# Altium footprint library Comp_Stellaris.PcbLib: 20 footprints (part 1 of 2)
Each footprint in its own frame and in the unit in brackets; x right, y up, seen from the top. Pads: shape width x height; smd on the part's side, far side on the other; paste and mask are expansions set on the pad; w line width, h text height; cw(c..) or ccw(c..) is an arc to the next point about the centre after c.
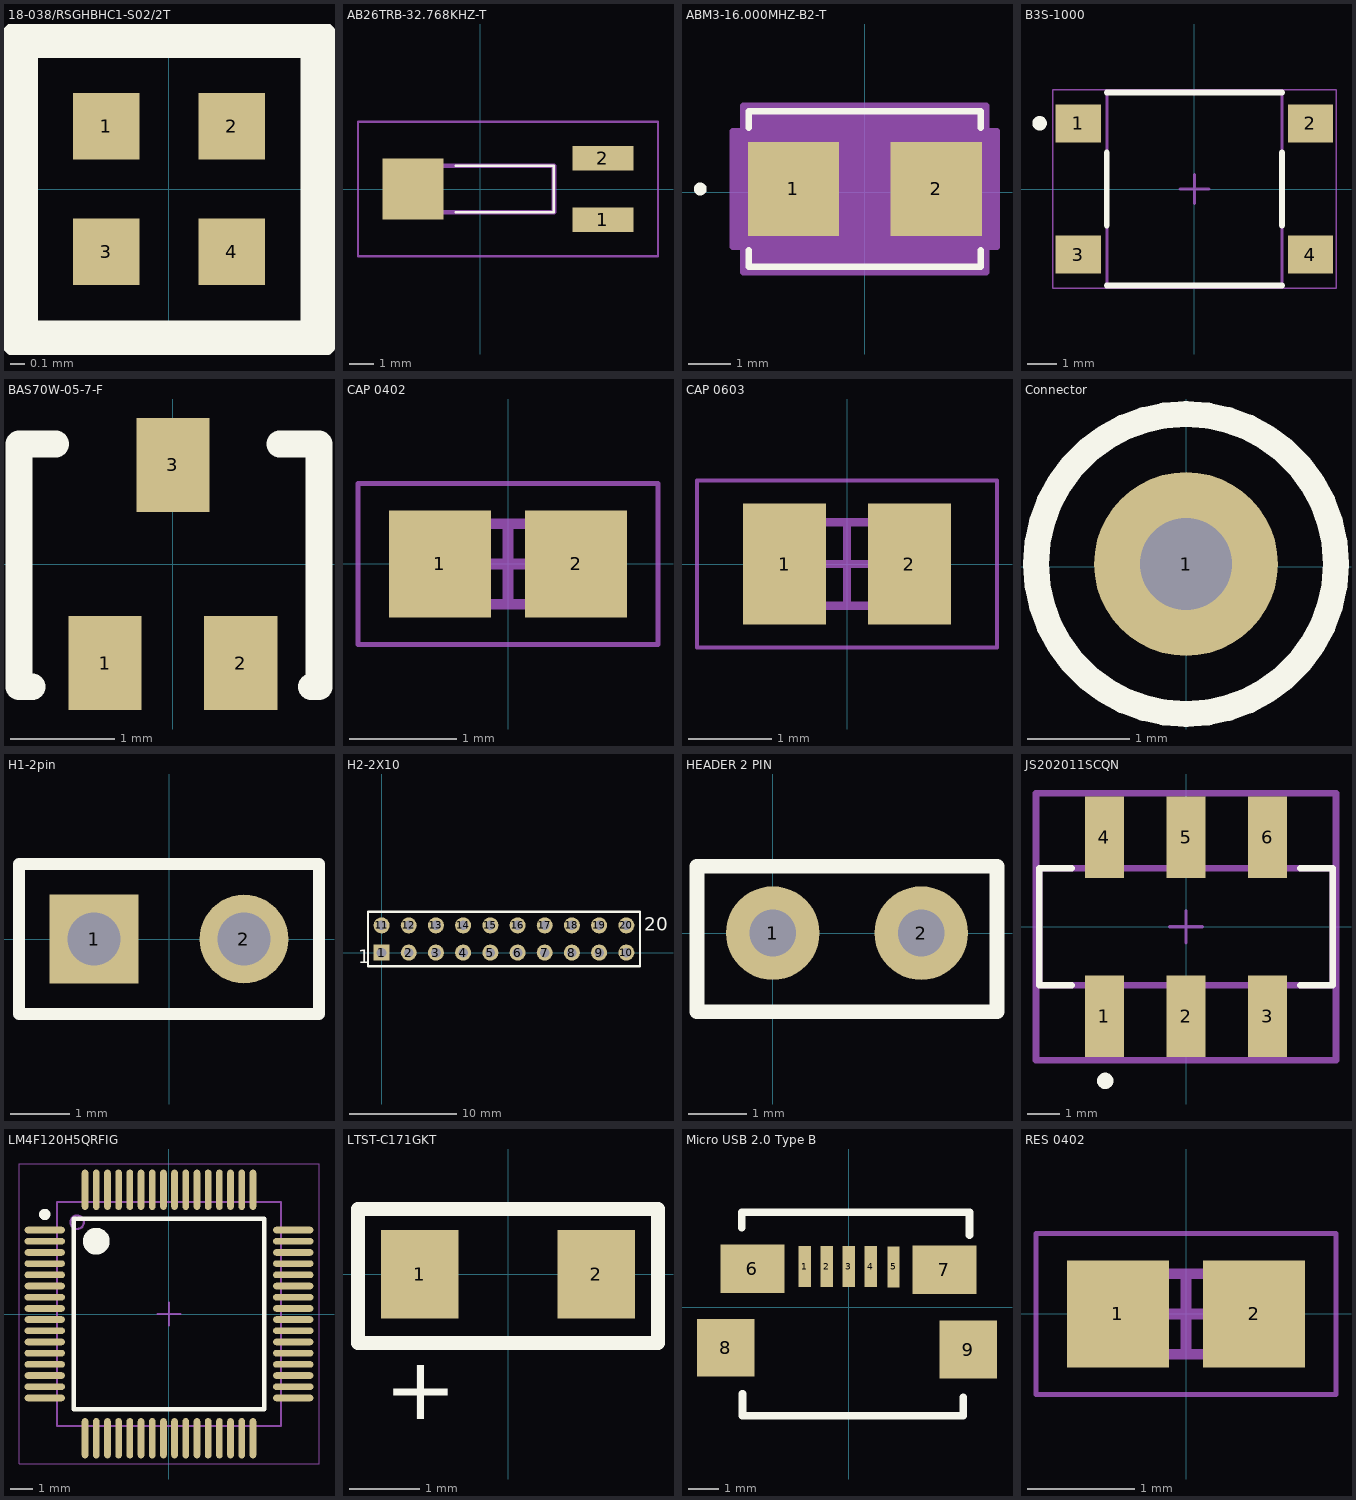
[diagram p0: the footprints below, top view; thin cyan lines are the x and y axes]

## 18-038/RSGHBHC1-S02/2T [mm] "LED Tri-Color Blue/Green/Red 475nm/531nm/631nm Chip LED 4-Pin SMD T/R"
pads (4):
  rect 0.45x0.45 smd: 1(-0.425,0.425) 2(0.425,0.425) 3(-0.425,-0.425) 4(0.425,-0.425)
Top Overlay:
  lines w0.254: -1.016,-1.016 -1.016,1.016 1.016,1.016 1.016,-1.016 -1.016,-1.016
3D body: height 0.5, standoff 0, extent -0.889,-0.889 0.889,0.889

## AB26TRB-32.768KHZ-T [mm] "Crystal, Cylindrical 32.768Khz, 12.5F, 20Ppm, 2 X 6 Formed Lead Smd Rohs Compliant: Yes"
pads (3):
  rect 2.5x1 smd: 1(5,-1.25) 2(5,1.25)
  rect 2.5x2.5 smd: ""(-2.75,0)
Top Overlay:
  lines w0.1: 3,-0.95 -1,-0.95 3,-0.95 ; 3,-0.95 3,0.95 ; 3,-0.95 3,0.95 ; 3,0.95 -1,0.95 3,0.95
Mechanical 13:
  lines w0.2: -3,-0.95 3,-0.95 3,0.95 -3,0.95 -3,-0.95
Mechanical 15:
  lines w0.1: -5,-2.75 7.25,-2.75 7.25,2.75 -5,2.75 -5,-2.75
3D body "AB26TRB_Chrome.stp": height 2.57, standoff 0.36, extent -3.23,-1.397 5.77,1.442

## ABM3-16.000MHZ-B2-T [mil] "Crystal 16MHz ±20ppm (Tol) ±50ppm (Stability) 18pF FUND 40Ohm 2-Pin Mini-CSMD T/R"
pads (2):
  rect 84.59x87 smd paste+0 mask+0: 1(-66.11,3) 2(66.11,3)
Top Overlay:
  circle w6: c-152.5,3 r3
  lines w6: -107.5,-53.6 -107.5,-69 107.5,-69 107.5,-53.6 ; -107.5,59.6 -107.5,75 107.5,75 107.5,59.6
Mechanical 13:
  circle w0: c-82.5,3 r3
  lines w1: -112.5,-74 -112.5,80 112.5,80 112.5,-74 -112.5,-74 ; -102.5,-64 102.5,-64 102.5,70 -102.5,70 -102.5,-64
Mechanical 15:
  region: -112.5,-50.5 -122.5,-50.5 -122.5,56.5 -112.5,56.5 -112.5,80 112.5,80 112.5,56.5 122.5,56.5 122.5,-50.5 112.5,-50.5 112.5,-74 -112.5,-74
  lines w6: -122.5,-50.5 -122.5,56.5 -112.5,56.5 -112.5,80 112.5,80 112.5,56.5 122.5,56.5 122.5,-50.5 112.5,-50.5 112.5,-74 -112.5,-74 -112.5,-50.5 -122.5,-50.5
3D body: height 202.76, standoff -202.76, extent 0,33 0,33
3D body "ABM3-16.000MHZ-B2--3DModel-STEP-400430.STEP": height 51.18, standoff -0.1, extent -98.42,-62.99 98.43,63

## B3S-1000 [mm] "Switch Tactile N.O. SPST Round Button Gull Wing 0.05A 24VDC 500000Cycles 1.57N SMD Bag"
pads (4):
  rect 1.55x1.3 smd: 1(-3.975,2.25) 2(3.975,2.25) 3(-3.975,-2.25) 4(3.975,-2.25)
Top Overlay:
  circle w0.25: c-5.3,2.25 r0.125
  lines w0.2: -3,-3.3 3,-3.3 ; -3,-1.253 -3,1.253 ; -3,3.3 3,3.3 ; 3,-1.253 3,1.253
Mechanical 13:
  lines w0.1: -3,-3.3 3,-3.3 3,3.3 -3,3.3 -3,-3.3
Mechanical 15:
  lines w0.05: -4.85,-3.4 4.85,-3.4 4.85,3.4 -4.85,3.4 -4.85,-3.4
  lines w0.1: -0.5,0 0.5,0 ; 0,-0.5 0,0.5
3D body "B3S_100[].step": height 4.4, standoff 0, extent -4.5,-3.3 4.5,3.3

## BAS70W-05-7-F [mm]
pads (3):
  rect 0.7x0.9 smd: 1(-0.65,-0.95) 2(0.65,-0.95) 3(0,0.95)
Top Overlay:
  lines w0.254: -1.35,-1.175 -1.475,-1.175 -1.475,1.15 -1.125,1.15 ; 1.025,1.15 1.375,1.15 ; 1.4,1.15 1.4,-1.175 ; 1.325,-1.175 1.4,-1.175 ; 1.325,-1.175 1.4,-1.175 ; 1.325,-1.175 1.4,-1.175
3D body "BC848 SOT 323 CASE 419-04.STEP": height 0.91, standoff 0, extent -1.334,-1.05 1.27,1.05

## CAP 0402 [mm] "Empaquetado 0402 para capacitor"
height 0.35
pads (2):
  rect 0.95x1 smd: 1(-0.635,0) 2(0.635,0)
Mechanical 13:
  lines w0.1: -0.825,-0.375 0.825,-0.375 0.825,0.375 -0.825,0.375 -0.825,-0.375
Mechanical 15:
  lines w0.05: -1.397,-0.75 1.397,-0.75 1.397,0.75 -1.397,0.75 -1.397,-0.75
  lines w0.1: -0.375,0 0.375,0 ; 0,-0.375 0,0.375
3D body "CAP 0402.step": height 0.35, standoff 0, extent -0.825,-0.375 0.825,0.375

## CAP 0603 [mm] "Empaquetado 0603 para capacitor"
height 0.8
pads (2):
  rect 1x1.45 smd: 1(-0.75,0) 2(0.75,0)
Mechanical 13:
  lines w0.1: -1.175,-0.5 -1.175,0.5 1.175,0.5 1.175,-0.5 -1.175,-0.5
Mechanical 15:
  lines w0.05: -1.8,-1 -1.8,1 1.8,1 1.8,-1 -1.8,-1
  lines w0.1: -0.5,0 0.5,0 ; 0,-0.5 0,0.5
3D body "CAP 0603.step": height 0.8, standoff 0, extent -1.175,-0.5 1.175,0.5

## Connector [mm]
pads (1):
  round 1.8 hole 0.9: 1(0,0.025)
Top Overlay:
  circle w0.254: c0,0.025 r1.467

## H1-2pin [mm]
pads (2):
  rect 1.5x1.5 hole 0.9: 1(-1.27,0)
  round 1.5 hole 0.9: 2(1.27,0)
Top Overlay:
  lines w0.2: -2.54,-1.27 -2.54,1.27 2.54,1.27 2.54,-1.27 -2.54,-1.27
3D body "Pin_Header_2.54-2.STEP": height 10.71, standoff -3.29, extent -2.495,-1.275 2.585,1.265

## H2-2X10 [mm] "Header 2X10"
pads (20):
  rect 1.5x1.5 hole 0.9: 1(0,0)
  round 1.5 hole 0.9: 2(2.54,0) 3(5.08,0) 4(7.62,0) 5(10.16,0) 6(12.7,0) 7(15.24,0) 8(17.78,0) 9(20.32,0) 10(22.86,0) 11(0,2.54) 12(2.54,2.54) 13(5.08,2.54) 14(7.62,2.54) 15(10.16,2.54) 16(12.7,2.54) 17(15.24,2.54) 18(17.78,2.54) 19(20.32,2.54) 20(22.86,2.54)
Top Overlay:
  lines w0.2: -1.27,-1.27 24.13,-1.27 24.13,3.81 -1.27,3.81 -1.27,-1.27
  text "1" at -2.2,-0.975 h1.27
  text "20" at 24.55,2.05 h1.27
3D body "H2X10.stp": height 8.5, standoff -3, extent -1.563,-1.188 24.338,3.813

## HEADER 2 PIN [mm]
pads (2):
  round 1.6 hole 0.8: 1(0,0) 2(2.54,0)
Top Overlay:
  lines w0.254: -1.295,-1.346 3.835,-1.346 3.835,1.143 -1.295,1.143 -1.295,-1.346
3D body: height 1.27, standoff 0, extent 2.845,-3.226 2.845,-3.226
3D body "Jumper Closed.stp": height 8.72, standoff -3.05, extent -1.27,-1.273 3.81,1.267

## JS202011SCQN [mm] "C&k Components JS202011SCQN / Switch Slide DPDT 6VDC 0.3A SMT"
pads (6):
  rect 1.2x2.5 smd paste+0 mask+0: 1(-2.5,-2.75) 2(0,-2.75) 3(2.5,-2.75) 4(-2.5,2.75) 5(0,2.75) 6(2.5,2.75)
Top Overlay:
  circle w0.25: c-2.476,-4.725 r0.125
  lines w0.2: -3.5,-1.8 -4.5,-1.8 -4.5,1.8 -3.5,1.8 ; 3.5,-1.8 4.5,-1.8 4.5,1.8 3.5,1.8
Mechanical 5:
  lines w0.2: -4.6,-4.1 4.6,-4.1 4.6,4.1 -4.6,4.1 -4.6,-4.1
Mechanical 13:
  lines w0.2: -4.5,-1.8 4.5,-1.8 4.5,1.8 -4.5,1.8 -4.5,-1.8
Mechanical 15:
  lines w0.2: -4.6,-4.1 4.6,-4.1 4.6,4.1 -4.6,4.1 -4.6,-4.1
Mechanical 16:
  lines w0.1: -0.5,0 0.5,0 ; 0,-0.5 0,0.5
3D body "PZ_Switch_SMD.stp": height 5.65, standoff -0.2, extent -4.437,-3.437 4.563,3.563

## LM4F120H5QRFIG [mm] "MCU 32-bit Stellaris ARM Cortex M4F RISC 256KB Flash 1.2V/3.3V 64-Pin LQFP Tray"
pads (64):
  oval 1.8x0.3 smd paste-0.102 mask+0.051: 1(-5.55,3.75) 2(-5.55,3.25) 3(-5.55,2.75) 4(-5.55,2.25) 5(-5.55,1.75) 6(-5.55,1.25) 7(-5.55,0.75) 8(-5.55,0.25) 9(-5.55,-0.25) 10(-5.55,-0.75) 11(-5.55,-1.25) 12(-5.55,-1.75) 13(-5.55,-2.25) 14(-5.55,-2.75) 15(-5.55,-3.25) 16(-5.55,-3.75) 33(5.55,-3.75) 34(5.55,-3.25) 35(5.55,-2.75) 36(5.55,-2.25) 37(5.55,-1.75) 38(5.55,-1.25) 39(5.55,-0.75) 40(5.55,-0.25) 41(5.55,0.25) 42(5.55,0.75) 43(5.55,1.25) 44(5.55,1.75) 45(5.55,2.25) 46(5.55,2.75) 47(5.55,3.25) 48(5.55,3.75)
  oval 0.3x1.8 smd paste-0.102 mask+0.051: 17(-3.75,-5.55) 18(-3.25,-5.55) 19(-2.75,-5.55) 20(-2.25,-5.55) 21(-1.75,-5.55) 22(-1.25,-5.55) 23(-0.75,-5.55) 24(-0.25,-5.55) 25(0.25,-5.55) 26(0.75,-5.55) 27(1.25,-5.55) 28(1.75,-5.55) 29(2.25,-5.55) 30(2.75,-5.55) 31(3.25,-5.55) 32(3.75,-5.55) 49(3.75,5.55) 50(3.25,5.55) 51(2.75,5.55) 52(2.25,5.55) 53(1.75,5.55) 54(1.25,5.55) 55(0.75,5.55) 56(0.25,5.55) 57(-0.25,5.55) 58(-0.75,5.55) 59(-1.25,5.55) 60(-1.75,5.55) 61(-2.25,5.55) 62(-2.75,5.55) 63(-3.25,5.55) 64(-3.75,5.55)
Top Overlay:
  circle w0.25: c-5.55,4.45 r0.125
  circle w0.6: c-3.25,3.25 r0.3
  lines w0.2: -4.25,-4.25 -4.25,4.25 4.25,4.25 4.25,-4.25 -4.25,-4.25
Mechanical 13:
  circle w0.1: c-4.1,4.1 r0.3
  lines w0.1: -5,-5 -5,5 5,5 5,-5 -5,-5
Mechanical 15:
  lines w0.05: -6.7,-6.7 -6.7,6.7 6.7,6.7 6.7,-6.7 -6.7,-6.7
  lines w0.1: -0.5,0 0.5,0 ; 0,-0.5 0,0.5
3D body "PM0064A.stp": height 1.5, standoff 0, extent -6.011,-6.011 6.011,6.011
3D body: height 0.25, standoff 0, extent 0,0 0.254,0.254

## LTST-C171GKT [mm]
pads (2):
  rect 1.1x1.25 smd: 1(-1.25,0) 2(1.25,0)
Top Overlay:
  lines w0.2: -2.125,-0.975 -2.125,0.925 2.125,0.925 2.125,-0.975 -2.125,-0.975
  text "+" at -1.75,-2.05 h0.9
3D body "LED SMD 0805.step": height 1, standoff 0, extent -1,-0.637 1,0.612

## Micro USB 2.0 Type B [mm]
pads (9):
  rect 0.4x1.35 smd: 1(-1.45,1.338) 2(-0.725,1.338) 3(0,1.338) 4(0.725,1.338) 5(1.475,1.325)
  rect 2.1x1.6 smd: 6(-3.175,1.27) 7(3.15,1.238)
  rect 1.9x1.9 smd: 8(-4.05,-1.337) 9(3.933,-1.397)
Top Overlay:
  lines w0.254: -3.525,2.625 -3.525,3.125 3.975,3.125 3.975,2.375 ; -3.5,-2.85 -3.5,-3.575 3.775,-3.575 3.775,-2.975
3D body: height 0.25, standoff 0, extent 1.397,-0.762 1.397,-0.762
3D body "ZX62-B-5PA.stp": height 2.76, standoff -0.19, extent -4.037,-4.191 4.037,1.409

## RES 0402 [mm] "Chip Resistor, 2-Leads, Body 1.50x0.60mm, IPC Medium Density"
height 0.35
pads (2):
  rect 0.95x1 smd: 1(-0.635,0) 2(0.635,0)
Mechanical 13:
  lines w0.1: -0.825,-0.375 -0.825,0.375 0.825,0.375 0.825,-0.375 -0.825,-0.375
Mechanical 15:
  lines w0.05: -1.397,-0.75 -1.397,0.75 1.397,0.75 1.397,-0.75 -1.397,-0.75
  lines w0.1: -0.375,0 0.375,0 ; 0,-0.375 0,0.375
3D body "Resistor_0402.step": height 0.36, standoff 0.01, extent -0.508,-0.254 0.508,0.254